# EAGLE library part FTDI232H (library df4iah_dataconvertion)
FT232H SINGLE CHANNEL HI-SPEED USB TO MULTIPURPOSE UART/FIFO Single channel USB to serial / parallel ports with a variety of configurations. Entire USB protocol handled on the chip. No USB specific firmware programming required. USB 2.0 Hi-Speed (480Mbits/Second) and Full Speed (12Mbits/Second) compatible. Multi-Protocol Synchronous Serial Engine (MPSSE) to simplify synchronous serial protocol (USB to JTAG, I2C, SPI (MASTER) or bit-bang) design. UART transfer data rate up to 12Mbaud. (RS232 Data Rate limited by external level shifter). USB to asynchronous 245 FIFO mode for transfer data rate up to 8 Mbyte/Sec. USB to synchronous 245 parallel FIFO mode for transfers up to 40 Mbytes/Sec Supports a proprietary half duplex FT1248 interface with a configurable width, bi-directional data bus (1, 2, 4 or 8 bits wide).
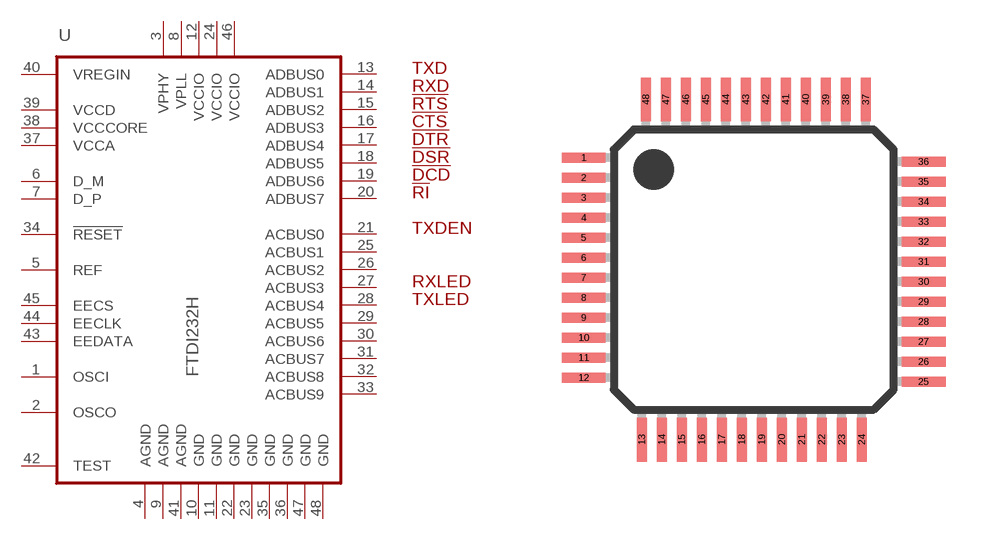
[diagram p8: symbol with the pads of LQFP48; footprint LQFP48]

Designator prefix U

## FTDI232HL  [LQFP48]
1  OSCI  pas
2  OSCO  pas
3  VPHY  pwr
4  AGND  pas
5  REF  pas
6  D_M  pas
7  D_P  pas
8  VPLL  pwr
9  AGND  pas
10  GND  pas
11  GND  pas
12  VCCIO  pwr
13  ADBUS0  out
14  ADBUS1  in
15  ADBUS2  out
16  ADBUS3  in
17  ADBUS4  out
18  ADBUS5  in
19  ADBUS6  in
20  ADBUS7  in
21  ACBUS0  out
22  GND  pas
23  GND  pas
24  VCCIO  pwr
25  ACBUS1  hiz
26  ACBUS2  hiz
27  ACBUS3  out
28  ACBUS4  out
29  ACBUS5  hiz
30  ACBUS6  hiz
31  ACBUS7  hiz
32  ACBUS8  hiz
33  ACBUS9  hiz
34  !RESET  in
35  GND  pas
36  GND  pas
37  VCCA  pas
38  VCCCORE  pas
39  VCCD  sup
40  VREGIN  pwr
41  AGND  pas
42  TEST  in
43  EEDATA
44  EECLK  out
45  EECS
46  VCCIO  pwr
47  GND  pas
48  GND  pas

## Footprint LQFP48 (pad centres in mm)
LQFP48 Plastic low profile quad flat package 48 leads 0.5 mm padding body 7 x 7 mm
smd 1.1 x 0.25: 1 -4.25,2.8; 2 -4.25,2.3; 3 -4.25,1.8; 4 -4.25,1.3; 5 -4.25,0.8; 6 -4.25,0.3; 7 -4.25,-0.2; 8 -4.25,-0.7; 9 -4.25,-1.2; 10 -4.25,-1.7; 11 -4.25,-2.2; 12 -4.25,-2.7; 25 4.25,-2.8; 26 4.25,-2.3; 27 4.25,-1.8; 28 4.25,-1.3; 29 4.25,-0.8; 30 4.25,-0.3; 31 4.25,0.2; 32 4.25,0.7; 33 4.25,1.2; 34 4.25,1.7; 35 4.25,2.2; 36 4.25,2.7
smd 0.25 x 1.1: 13 -2.8,-4.25; 14 -2.3,-4.25; 15 -1.8,-4.25; 16 -1.3,-4.25; 17 -0.8,-4.25; 18 -0.3,-4.25; 19 0.2,-4.25; 20 0.7,-4.25; 21 1.2,-4.25; 22 1.7,-4.25; 23 2.2,-4.25; 24 2.7,-4.25; 37 2.8,4.25; 38 2.3,4.25; 39 1.8,4.25; 40 1.3,4.25; 41 0.8,4.25; 42 0.3,4.25; 43 -0.2,4.25; 44 -0.7,4.25; 45 -1.2,4.25; 46 -1.7,4.25; 47 -2.2,4.25; 48 -2.7,4.25